# EAGLE library part --MERGED_RELAY-DPDT (library proxmark3_exported_and_modified_components)
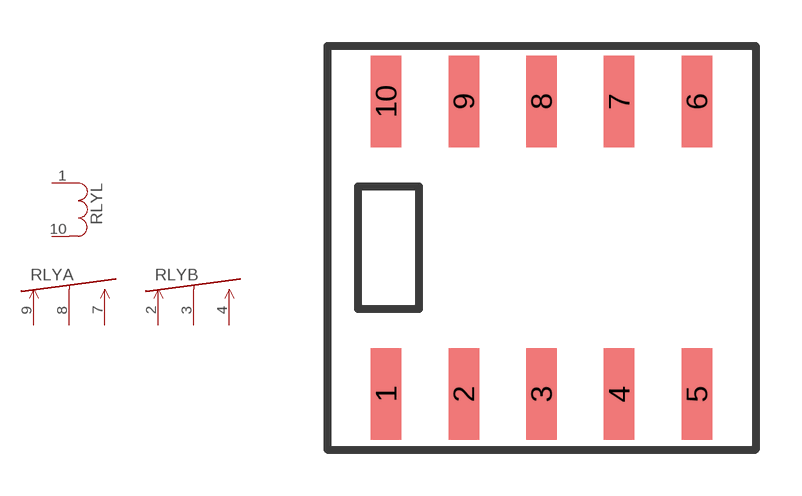
[diagram p10: symbol with the pads of --MERGED_TQ-SMD-RELAY; footprint --MERGED_TQ-SMD-RELAY]

Designator prefix RLY; gates A=--MERGED_RELAY-NO-NC B=--MERGED_RELAY-NO-NC L=--MERGED_RELAY-COIL

## --MERGED_RELAY-DPDT  [--MERGED_TQ-SMD-RELAY]
1  L:P$1  pas
2  B:NC  pas
3  B:COM  pas
4  B:NO  pas
7  A:NO  pas
8  A:COM  pas
9  A:NC  pas
10  L:P$2  pas

## Footprint --MERGED_TQ-SMD-RELAY (pad centres in mm)
smd 1 x 3: 1 -5.08,-4.78; 2 -2.54,-4.78; 3 0,-4.78; 4 2.54,-4.78; 5 5.08,-4.78; 6 5.08,4.78; 7 2.54,4.78; 8 0,4.78; 9 -2.54,4.78; 10 -5.08,4.78